# EAGLE library part AD57X4 (library Gemelke_Lab)
AD57X4 Family of Quad DACs
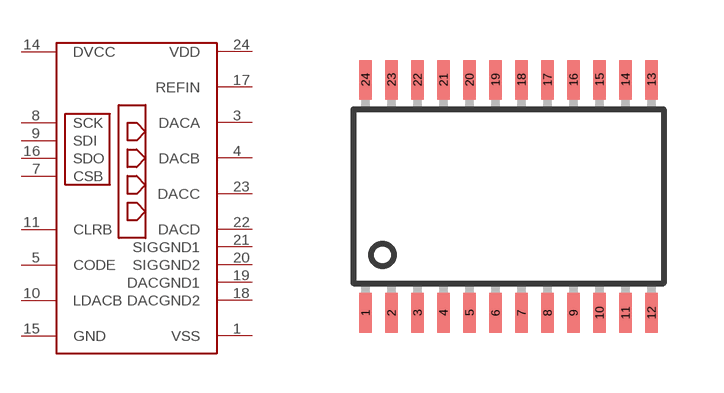
[diagram p8: symbol with the pads of TSSOP24; footprint TSSOP24]

Designator prefix DAC

## AD57X4  [TSSOP24]
1  VSS  pwr
3  DACA
4  DACB
5  CODE
7  CSB
8  SCK
9  SDI
10  LDACB
11  CLRB
14  DVCC  pwr
15  GND  pwr
16  SDO
17  REFIN  pwr
18  DACGND2  pwr
19  DACGND1  pwr
20  SIGGND2  pwr
21  SIGGND1  pwr
22  DACD
23  DACC
24  VDD  pwr

## Footprint TSSOP24 (pad centres in mm)
24-Lead Thin Shrink Small Outline Package TSSOP (RU-24) Source: http://www.analog.com/UploadedFiles/Data_Sheets/39677768AD7714_c.pdf
smd 0.305 x 0.991: 1 -3.575,-2.918; 2 -2.925,-2.918; 3 -2.275,-2.918; 4 -1.625,-2.918; 5 -0.975,-2.918; 6 -0.325,-2.918; 7 0.325,-2.918; 8 0.975,-2.918; 9 1.625,-2.918; 10 2.275,-2.918; 11 2.925,-2.918; 12 3.575,-2.918; 13 3.575,2.918; 14 2.925,2.918; 15 2.275,2.918; 16 1.625,2.918; 17 0.975,2.918; 18 0.325,2.918; 19 -0.325,2.918; 20 -0.975,2.918; 21 -1.625,2.918; 22 -2.275,2.918; 23 -2.925,2.918; 24 -3.575,2.918